# EAGLE library part 74HC4066N (library NXP_By_element14_Batch_1)
Quad bilateral switches
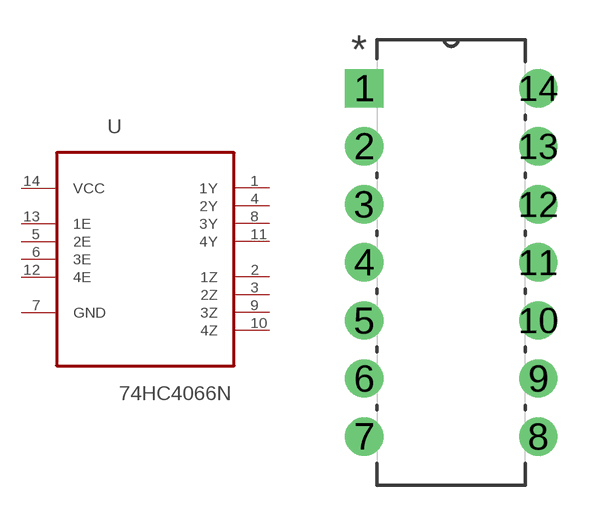
[diagram p124: symbol with the pads of DIP254P762X420-14; footprint DIP254P762X420-14]

Designator prefix U

## 74HC4066N (MPN: 74HC4066N; OC_FARNELL: 380957; OC_NEWARK: 07WX3745; PACKAGE: DIP-14; SUPPLIER: NXP)  [DIP254P762X420-14]
1  1Y
2  1Z
3  2Z  out
4  2Y
5  2E  in
6  3E  in
7  GND  pas
8  3Y
9  3Z
10  4Z
11  4Y
12  4E  in
13  1E  in
14  VCC  pwr

## Footprint DIP254P762X420-14 (pad centres in mm)
drill 1.118 square: 1 -7.62,15.24
drill 1.118: 2 -7.62,12.7; 3 -7.62,10.16; 4 -7.62,7.62; 5 -7.62,5.08; 6 -7.62,2.54; 7 -7.62,0; 8 0,0; 9 0,2.54; 10 0,5.08; 11 0,7.62; 12 0,10.16; 13 0,12.7; 14 0,15.24